# EAGLE library part CAP_OIL_ONPCB (library wheat)
CAP, OIL MOTOR RUN, MOUNTED ON PCB WITH KEYSTONE 3528 TERMINALS
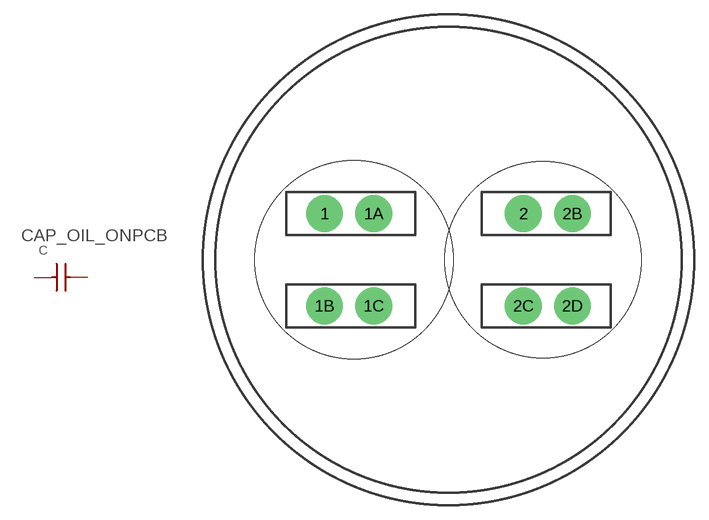
[diagram p78: symbol with the pads of CAP_OIL_ONPCB; footprint CAP_OIL_ONPCB]

Designator prefix C

## CAP_OIL_ONPCB  [CAP_OIL_ONPCB]
1  1  pas
1A  1A  pas
1B  1B  pas
1C  1C  pas
2  2  pas
2B  2A  pas
2C  2B  pas
2D  2C  pas

## Footprint CAP_OIL_ONPCB (pad centres in mm)
OIL CAP, PCB MIUNTED WITH KEYSTONE 3528 TERMINALS
drill 2.54 pad 3.81: 1 -12.827,4.775; 1A -7.747,4.775; 1B -12.827,-4.775; 1C -7.747,-4.775; 2 7.747,4.775; 2B 12.827,4.775; 2C 7.747,-4.775; 2D 12.827,-4.775